# Altium footprint library 4N25.PcbLib: 1 footprints
Each footprint in its own frame and in the unit in brackets; x right, y up, seen from the top. Pads: shape width x height; smd on the part's side, far side on the other; paste and mask are expansions set on the pad; w line width, h text height; cw(c..) or ccw(c..) is an arc to the next point about the centre after c.
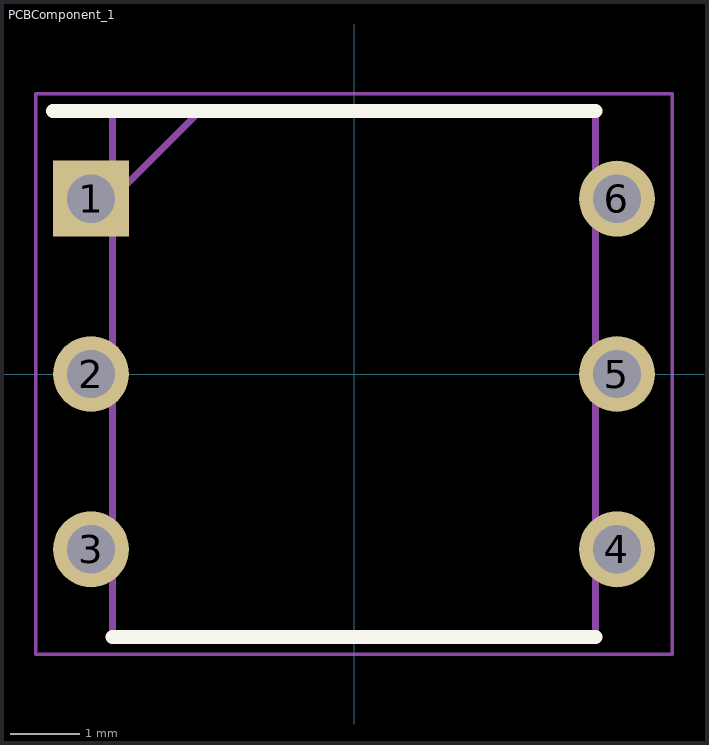
[diagram p0: the footprint, top view; thin cyan lines are the x and y axes]

## PCBComponent_1 [mm]
pads (6):
  rect 1.1x1.1 hole 0.7: 1(-3.81,2.54)
  round 1.1 hole 0.7: 2(-3.81,0) 3(-3.81,-2.54) 4(3.81,-2.54) 5(3.81,0) 6(3.81,2.54)
Top Overlay:
  lines w0.2: -4.36,3.81 3.5,3.81 ; -3.5,-3.81 3.5,-3.81
Mechanical 13:
  lines w0.1: -3.5,2.54 -2.23,3.81 ; -3.5,-3.81 3.5,-3.81 3.5,3.81 -3.5,3.81 -3.5,-3.81
Mechanical 15:
  lines w0.05: -4.61,-4.06 4.61,-4.06 4.61,4.06 -4.61,4.06 -4.61,-4.06
3D body "DIP-6.STEP": height 4.31, standoff -3.28, extent -4,-4.064 4,4.016